# Altium integrated library Linear Technology Power Management LED Driver ICs.IntLib: 490 symbols (part 43 of 48)
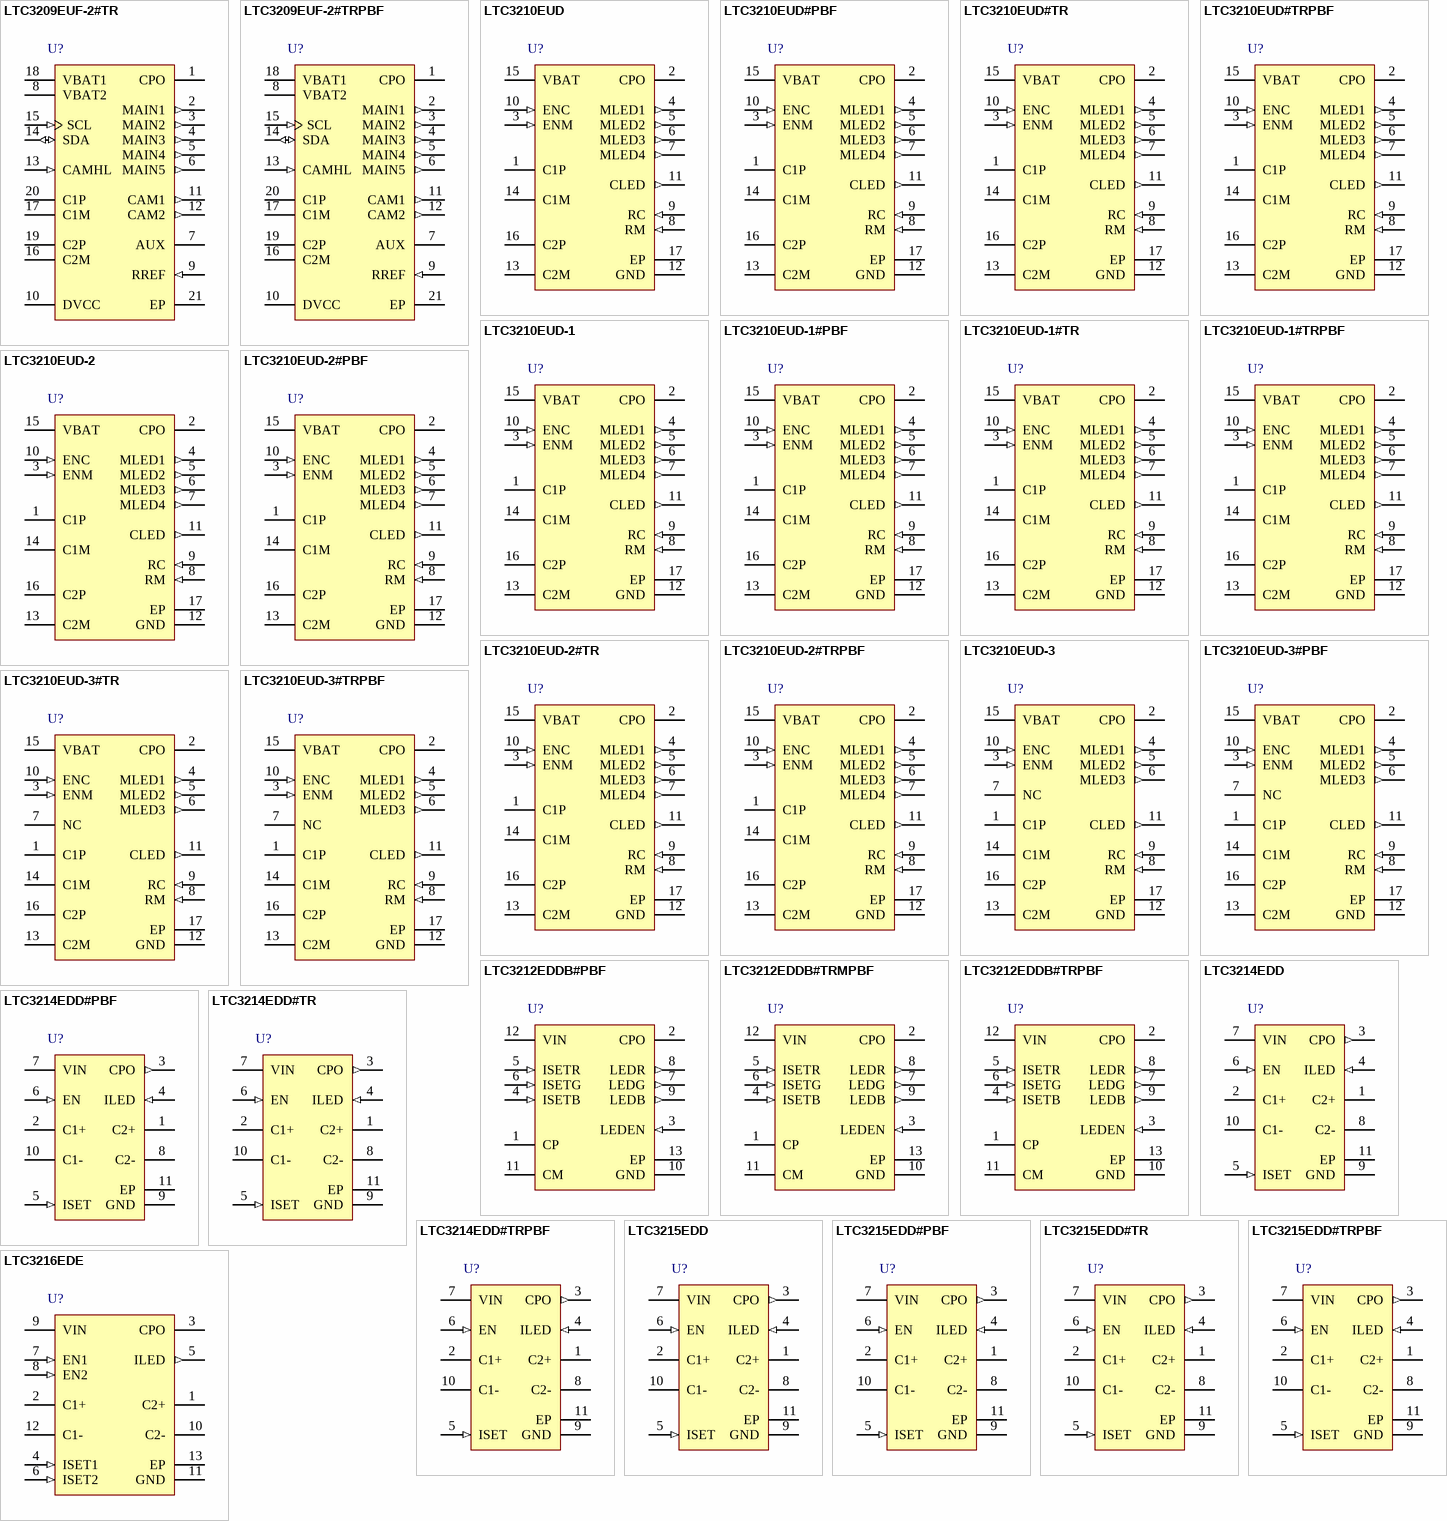
[diagram p62: symbols LTC3209EUF-2#TR to LTC3216EDE]

## LTC3214EDD
designator U?
500 mA Camera LED Charge Pump, 2.9 to 4.5 V Vin, 5 V Vout MAX, 10-pin SON (DD-10), -40 to 85 degC; Manufacturer: Linear Technology; PartNumber: LTC3214EDD; Topology: Charge Pump, LED Driver; Vin Min(V): 2.9; DatasheetVersion: Rev. B; PackageVersion: Rev. C, 06/2010; PackageReference: DD-10; PackageDescription: 10-Pin Plastic DFN, Body 3 x 3 mm, Pitch 0.5 mm; Supplier 1: Digi-Key; Supplier Part Number 1: LTC3214EDD-ND; RoHS: FALSE; Mounting Technology: Surface Mount; Code_JEDEC: MO-229; ComponentLink1Description: Manufacturer URL; ComponentLink1URL: http://www.linear.com/; ComponentLink2Description: Datasheet; ComponentLink2URL: http://cds.linear.com/docs/en/datasheet/3214fb.pdf; ComponentLink3Description: Package Specification; ComponentLink3URL: http://cds.linear.com/docs/en/packaging/DFN_10_05-08-1699.pdf
footprint LT-DD-10_V (SON, 10-Leads, Body 3x3mm, Pitch 0.5mm, Thermal Pad 2.38x1.65mm)
pins: 1 C2+ "Charge Pump Flying Capacitor Pins. A 2.2uF X5R or X7R ceramic capacitor should be connected from C1+ to C1- and from C2+ to C2-.", 2 C1+ "Charge Pump Flying Capacitor Pins. A 2.2uF X5R or X7R ceramic capacitor should be connected from C1+ to C1- and from C2+ to C2-.", 3 CPO (out) "Output. CPO is the output of the charge pump. This pin may be enabled or disabled using the EN input. A 4.7uF X5R or X7R ceramic capacitor is required from CPO to GND.", 4 ILED (in) "Input. ILED is the LED current sense pin. The LED is connected between CPO (anode) and ILED (cathode). The current into the ILED pin is set by a resistor connected to the ISET pin and regulated internally.", 5 ISET (in), 6 EN (in), 7 VIN (power), 8 C2- "Charge Pump Flying Capacitor Pins. A 2.2uF X5R or X7R ceramic capacitor should be connected from C1+ to C1- and from C2+ to C2-.", 9 GND (power) "Charge Pump Ground. This pin should be connected directly to a low impedance ground plane.", 10 C1- "Charge Pump Flying Capacitor Pins. A 2.2uF X5R or X7R ceramic capacitor should be connected from C1+ to C1- and from C2+ to C2-.", 11 EP (power) "Control Signal Ground. This pad must be soldered to a low impedance ground plane for optimum thermal and electrical performance."

## LTC3214EDD#PBF
designator U?
500 mA Camera LED Charge Pump, 2.9 to 4.5 V Vin, 5 V Vout MAX, 10-pin SON (DD-10), -40 to 85 degC, Pb-Free; Manufacturer: Linear Technology; PartNumber: LTC3214EDD#PBF; Topology: Charge Pump, LED Driver; Vin Min(V): 2.9; DatasheetVersion: Rev. B; PackageVersion: Rev. C, 06/2010; PackageReference: DD-10; PackageDescription: 10-Pin Plastic DFN, Body 3 x 3 mm, Pitch 0.5 mm; Supplier 1: Digi-Key; Supplier Part Number 1: LTC3214EDD#PBF-ND; Supplier 2: Newark; Supplier Part Number 2: 56M7417; RoHS: TRUE; Mounting Technology: Surface Mount; Code_JEDEC: MO-229; ComponentLink1Description: Manufacturer URL; ComponentLink1URL: http://www.linear.com/; ComponentLink2Description: Datasheet; ComponentLink2URL: http://cds.linear.com/docs/en/datasheet/3214fb.pdf; ComponentLink3Description: Package Specification; ComponentLink3URL: http://cds.linear.com/docs/en/packaging/DFN_10_05-08-1699.pdf
footprint LT-DD-10_V (SON, 10-Leads, Body 3x3mm, Pitch 0.5mm, Thermal Pad 2.38x1.65mm)
pins: 1 C2+ "Charge Pump Flying Capacitor Pins. A 2.2uF X5R or X7R ceramic capacitor should be connected from C1+ to C1- and from C2+ to C2-.", 2 C1+ "Charge Pump Flying Capacitor Pins. A 2.2uF X5R or X7R ceramic capacitor should be connected from C1+ to C1- and from C2+ to C2-.", 3 CPO (out) "Output. CPO is the output of the charge pump. This pin may be enabled or disabled using the EN input. A 4.7uF X5R or X7R ceramic capacitor is required from CPO to GND.", 4 ILED (in) "Input. ILED is the LED current sense pin. The LED is connected between CPO (anode) and ILED (cathode). The current into the ILED pin is set by a resistor connected to the ISET pin and regulated internally.", 5 ISET (in), 6 EN (in), 7 VIN (power), 8 C2- "Charge Pump Flying Capacitor Pins. A 2.2uF X5R or X7R ceramic capacitor should be connected from C1+ to C1- and from C2+ to C2-.", 9 GND (power) "Charge Pump Ground. This pin should be connected directly to a low impedance ground plane.", 10 C1- "Charge Pump Flying Capacitor Pins. A 2.2uF X5R or X7R ceramic capacitor should be connected from C1+ to C1- and from C2+ to C2-.", 11 EP (power) "Control Signal Ground. This pad must be soldered to a low impedance ground plane for optimum thermal and electrical performance."

## LTC3214EDD#TR
designator U?
500 mA Camera LED Charge Pump, 2.9 to 4.5 V Vin, 5 V Vout MAX, 10-pin SON (DD-10), -40 to 85 degC, Tape and Reel; Manufacturer: Linear Technology; PartNumber: LTC3214EDD#TR; Topology: Charge Pump, LED Driver; Vin Min(V): 2.9; DatasheetVersion: Rev. B; PackageVersion: Rev. C, 06/2010; PackageReference: DD-10; PackageDescription: 10-Pin Plastic DFN, Body 3 x 3 mm, Pitch 0.5 mm; Supplier 1: Digi-Key; Supplier Part Number 1: LTC3214EDD#TR-ND; Packing: Tape and Reel; RoHS: FALSE; Mounting Technology: Surface Mount; Code_JEDEC: MO-229; ComponentLink1Description: Manufacturer URL; ComponentLink1URL: http://www.linear.com/; ComponentLink2Description: Datasheet; ComponentLink2URL: http://cds.linear.com/docs/en/datasheet/3214fb.pdf; ComponentLink3Description: Package Specification; ComponentLink3URL: http://cds.linear.com/docs/en/packaging/DFN_10_05-08-1699.pdf
footprint LT-DD-10_V (SON, 10-Leads, Body 3x3mm, Pitch 0.5mm, Thermal Pad 2.38x1.65mm)
pins: 1 C2+ "Charge Pump Flying Capacitor Pins. A 2.2uF X5R or X7R ceramic capacitor should be connected from C1+ to C1- and from C2+ to C2-.", 2 C1+ "Charge Pump Flying Capacitor Pins. A 2.2uF X5R or X7R ceramic capacitor should be connected from C1+ to C1- and from C2+ to C2-.", 3 CPO (out) "Output. CPO is the output of the charge pump. This pin may be enabled or disabled using the EN input. A 4.7uF X5R or X7R ceramic capacitor is required from CPO to GND.", 4 ILED (in) "Input. ILED is the LED current sense pin. The LED is connected between CPO (anode) and ILED (cathode). The current into the ILED pin is set by a resistor connected to the ISET pin and regulated internally.", 5 ISET (in), 6 EN (in), 7 VIN (power), 8 C2- "Charge Pump Flying Capacitor Pins. A 2.2uF X5R or X7R ceramic capacitor should be connected from C1+ to C1- and from C2+ to C2-.", 9 GND (power) "Charge Pump Ground. This pin should be connected directly to a low impedance ground plane.", 10 C1- "Charge Pump Flying Capacitor Pins. A 2.2uF X5R or X7R ceramic capacitor should be connected from C1+ to C1- and from C2+ to C2-.", 11 EP (power) "Control Signal Ground. This pad must be soldered to a low impedance ground plane for optimum thermal and electrical performance."

## LTC3214EDD#TRPBF
designator U?
500 mA Camera LED Charge Pump, 2.9 to 4.5 V Vin, 5 V Vout MAX, 10-pin SON (DD-10), -40 to 85 degC, Pb-Free, Tape and Reel; Manufacturer: Linear Technology; PartNumber: LTC3214EDD#TRPBF; Topology: Charge Pump, LED Driver; Vin Min(V): 2.9; DatasheetVersion: Rev. B; PackageVersion: Rev. C, 06/2010; PackageReference: DD-10; PackageDescription: 10-Pin Plastic DFN, Body 3 x 3 mm, Pitch 0.5 mm; Supplier 1: Digi-Key; Supplier Part Number 1: LTC3214EDD#TRPBF-ND; Packing: Tape and Reel; RoHS: TRUE; Mounting Technology: Surface Mount; Code_JEDEC: MO-229; ComponentLink1Description: Manufacturer URL; ComponentLink1URL: http://www.linear.com/; ComponentLink2Description: Datasheet; ComponentLink2URL: http://cds.linear.com/docs/en/datasheet/3214fb.pdf; ComponentLink3Description: Package Specification; ComponentLink3URL: http://cds.linear.com/docs/en/packaging/DFN_10_05-08-1699.pdf
footprint LT-DD-10_V (SON, 10-Leads, Body 3x3mm, Pitch 0.5mm, Thermal Pad 2.38x1.65mm)
pins: 1 C2+ "Charge Pump Flying Capacitor Pins. A 2.2uF X5R or X7R ceramic capacitor should be connected from C1+ to C1- and from C2+ to C2-.", 2 C1+ "Charge Pump Flying Capacitor Pins. A 2.2uF X5R or X7R ceramic capacitor should be connected from C1+ to C1- and from C2+ to C2-.", 3 CPO (out) "Output. CPO is the output of the charge pump. This pin may be enabled or disabled using the EN input. A 4.7uF X5R or X7R ceramic capacitor is required from CPO to GND.", 4 ILED (in) "Input. ILED is the LED current sense pin. The LED is connected between CPO (anode) and ILED (cathode). The current into the ILED pin is set by a resistor connected to the ISET pin and regulated internally.", 5 ISET (in), 6 EN (in), 7 VIN (power), 8 C2- "Charge Pump Flying Capacitor Pins. A 2.2uF X5R or X7R ceramic capacitor should be connected from C1+ to C1- and from C2+ to C2-.", 9 GND (power) "Charge Pump Ground. This pin should be connected directly to a low impedance ground plane.", 10 C1- "Charge Pump Flying Capacitor Pins. A 2.2uF X5R or X7R ceramic capacitor should be connected from C1+ to C1- and from C2+ to C2-.", 11 EP (power) "Control Signal Ground. This pad must be soldered to a low impedance ground plane for optimum thermal and electrical performance."

## LTC3215EDD
designator U?
Constant Frequency Charge Pump with Independent Torch (350 mA) / Flash (700 mA) Current Control, 2.9 to 4.4 V Vin, 5.1 V Vout MAX, 10-pin SON (DD-10), -40 to 85 degC; Manufacturer: Linear Technology; PartNumber: LTC3215EDD; Topology: Charge Pump, LED Driver; Vin Min(V): 2.9; DatasheetVersion: Rev. C; PackageVersion: Rev. C, 06/2010; PackageReference: DD-10; PackageDescription: 10-Pin Plastic DFN, Body 3 x 3 mm, Pitch 0.5 mm; Supplier 1: Digi-Key; Supplier Part Number 1: LTC3215EDD-ND; RoHS: FALSE; Mounting Technology: Surface Mount; Code_JEDEC: MO-229; ComponentLink1Description: Manufacturer URL; ComponentLink1URL: http://www.linear.com/; ComponentLink2Description: Datasheet; ComponentLink2URL: http://cds.linear.com/docs/en/datasheet/3215fc.pdf; ComponentLink3Description: Package Specification; ComponentLink3URL: http://cds.linear.com/docs/en/packaging/DFN_10_05-08-1699.pdf
footprint LT-DD-10_V (SON, 10-Leads, Body 3x3mm, Pitch 0.5mm, Thermal Pad 2.38x1.65mm)
pins: 1 C2+ "Charge Pump Flying Capacitor Pins. A 2.2uF X5R or X7R ceramic capacitor should be connected from C1+ to C1- and from C2+ to C2-.", 2 C1+ "Charge Pump Flying Capacitor Pins. A 2.2uF X5R or X7R ceramic capacitor should be connected from C1+ to C1- and from C2+ to C2-.", 3 CPO (out) "Output. CPO is the output of the charge pump. This pin may be enabled or disabled using the EN input. A 4.7uF X5R or X7R ceramic capacitor is required from CPO to GND.", 4 ILED (in) "Input. ILED is the LED current sense pin. The LED is connected between CPO (anode) and ILED (cathode). The current into the ILED pin is set by a resistor connected to the ISET pin and regulated internally.", 5 ISET (in), 6 EN (in), 7 VIN (power), 8 C2- "Charge Pump Flying Capacitor Pins. A 2.2uF X5R or X7R ceramic capacitor should be connected from C1+ to C1- and from C2+ to C2-.", 9 GND (power) "Charge Pump Ground. This pin should be connected directly to a low impedance ground plane.", 10 C1- "Charge Pump Flying Capacitor Pins. A 2.2uF X5R or X7R ceramic capacitor should be connected from C1+ to C1- and from C2+ to C2-.", 11 EP (power) "Control Signal Ground. This pad must be soldered to a low impedance ground plane for optimum thermal and electrical performance."

## LTC3215EDD#PBF
designator U?
Constant Frequency Charge Pump with Independent Torch (350 mA) / Flash (700 mA) Current Control, 2.9 to 4.4 V Vin, 5.1 V Vout MAX, 10-pin SON (DD-10), -40 to 85 degC, Pb-Free; Manufacturer: Linear Technology; PartNumber: LTC3215EDD#PBF; Topology: Charge Pump, LED Driver; Vin Min(V): 2.9; DatasheetVersion: Rev. C; PackageVersion: Rev. C, 06/2010; PackageReference: DD-10; PackageDescription: 10-Pin Plastic DFN, Body 3 x 3 mm, Pitch 0.5 mm; Supplier 1: Digi-Key; Supplier Part Number 1: LTC3215EDD#PBF-ND; Supplier 2: Farnell; Supplier Part Number 2: 1226280; Supplier 3: Newark; Supplier Part Number 3: 56M7421; RoHS: TRUE; Mounting Technology: Surface Mount; Code_JEDEC: MO-229; ComponentLink1Description: Manufacturer URL; ComponentLink1URL: http://www.linear.com/; ComponentLink2Description: Datasheet; ComponentLink2URL: http://cds.linear.com/docs/en/datasheet/3215fc.pdf; ComponentLink3Description: Package Specification; ComponentLink3URL: http://cds.linear.com/docs/en/packaging/DFN_10_05-08-1699.pdf
footprint LT-DD-10_V (SON, 10-Leads, Body 3x3mm, Pitch 0.5mm, Thermal Pad 2.38x1.65mm)
pins: 1 C2+ "Charge Pump Flying Capacitor Pins. A 2.2uF X5R or X7R ceramic capacitor should be connected from C1+ to C1- and from C2+ to C2-.", 2 C1+ "Charge Pump Flying Capacitor Pins. A 2.2uF X5R or X7R ceramic capacitor should be connected from C1+ to C1- and from C2+ to C2-.", 3 CPO (out) "Output. CPO is the output of the charge pump. This pin may be enabled or disabled using the EN input. A 4.7uF X5R or X7R ceramic capacitor is required from CPO to GND.", 4 ILED (in) "Input. ILED is the LED current sense pin. The LED is connected between CPO (anode) and ILED (cathode). The current into the ILED pin is set by a resistor connected to the ISET pin and regulated internally.", 5 ISET (in), 6 EN (in), 7 VIN (power), 8 C2- "Charge Pump Flying Capacitor Pins. A 2.2uF X5R or X7R ceramic capacitor should be connected from C1+ to C1- and from C2+ to C2-.", 9 GND (power) "Charge Pump Ground. This pin should be connected directly to a low impedance ground plane.", 10 C1- "Charge Pump Flying Capacitor Pins. A 2.2uF X5R or X7R ceramic capacitor should be connected from C1+ to C1- and from C2+ to C2-.", 11 EP (power) "Control Signal Ground. This pad must be soldered to a low impedance ground plane for optimum thermal and electrical performance."

## LTC3215EDD#TR
designator U?
Constant Frequency Charge Pump with Independent Torch (350 mA) / Flash (700 mA) Current Control, 2.9 to 4.4 V Vin, 5.1 V Vout MAX, 10-pin SON (DD-10), -40 to 85 degC, Tape and Reel; Manufacturer: Linear Technology; PartNumber: LTC3215EDD#TR; Topology: Charge Pump, LED Driver; Vin Min(V): 2.9; DatasheetVersion: Rev. C; PackageVersion: Rev. C, 06/2010; PackageReference: DD-10; PackageDescription: 10-Pin Plastic DFN, Body 3 x 3 mm, Pitch 0.5 mm; Supplier 1: Digi-Key; Supplier Part Number 1: LTC3215EDD#TR-ND; Packing: Tape and Reel; RoHS: FALSE; Mounting Technology: Surface Mount; Code_JEDEC: MO-229; ComponentLink1Description: Manufacturer URL; ComponentLink1URL: http://www.linear.com/; ComponentLink2Description: Datasheet; ComponentLink2URL: http://cds.linear.com/docs/en/datasheet/3215fc.pdf; ComponentLink3Description: Package Specification; ComponentLink3URL: http://cds.linear.com/docs/en/packaging/DFN_10_05-08-1699.pdf
footprint LT-DD-10_V (SON, 10-Leads, Body 3x3mm, Pitch 0.5mm, Thermal Pad 2.38x1.65mm)
pins: 1 C2+ "Charge Pump Flying Capacitor Pins. A 2.2uF X5R or X7R ceramic capacitor should be connected from C1+ to C1- and from C2+ to C2-.", 2 C1+ "Charge Pump Flying Capacitor Pins. A 2.2uF X5R or X7R ceramic capacitor should be connected from C1+ to C1- and from C2+ to C2-.", 3 CPO (out) "Output. CPO is the output of the charge pump. This pin may be enabled or disabled using the EN input. A 4.7uF X5R or X7R ceramic capacitor is required from CPO to GND.", 4 ILED (in) "Input. ILED is the LED current sense pin. The LED is connected between CPO (anode) and ILED (cathode). The current into the ILED pin is set by a resistor connected to the ISET pin and regulated internally.", 5 ISET (in), 6 EN (in), 7 VIN (power), 8 C2- "Charge Pump Flying Capacitor Pins. A 2.2uF X5R or X7R ceramic capacitor should be connected from C1+ to C1- and from C2+ to C2-.", 9 GND (power) "Charge Pump Ground. This pin should be connected directly to a low impedance ground plane.", 10 C1- "Charge Pump Flying Capacitor Pins. A 2.2uF X5R or X7R ceramic capacitor should be connected from C1+ to C1- and from C2+ to C2-.", 11 EP (power) "Control Signal Ground. This pad must be soldered to a low impedance ground plane for optimum thermal and electrical performance."

## LTC3215EDD#TRPBF
designator U?
Constant Frequency Charge Pump with Independent Torch (350 mA) / Flash (700 mA) Current Control, 2.9 to 4.4 V Vin, 5.1 V Vout MAX, 10-pin SON (DD-10), -40 to 85 degC, Pb-Free, Tape and Reel; Manufacturer: Linear Technology; PartNumber: LTC3215EDD#TRPBF; Topology: Charge Pump, LED Driver; Vin Min(V): 2.9; DatasheetVersion: Rev. C; PackageVersion: Rev. C, 06/2010; PackageReference: DD-10; PackageDescription: 10-Pin Plastic DFN, Body 3 x 3 mm, Pitch 0.5 mm; Supplier 1: Digi-Key; Supplier Part Number 1: LTC3215EDD#TRPBF-ND; Supplier 2: Newark; Supplier Part Number 2: 56M7423; Packing: Tape and Reel; RoHS: TRUE; Mounting Technology: Surface Mount; Code_JEDEC: MO-229; ComponentLink1Description: Manufacturer URL; ComponentLink1URL: http://www.linear.com/; ComponentLink2Description: Datasheet; ComponentLink2URL: http://cds.linear.com/docs/en/datasheet/3215fc.pdf; ComponentLink3Description: Package Specification; ComponentLink3URL: http://cds.linear.com/docs/en/packaging/DFN_10_05-08-1699.pdf
footprint LT-DD-10_V (SON, 10-Leads, Body 3x3mm, Pitch 0.5mm, Thermal Pad 2.38x1.65mm)
pins: 1 C2+ "Charge Pump Flying Capacitor Pins. A 2.2uF X5R or X7R ceramic capacitor should be connected from C1+ to C1- and from C2+ to C2-.", 2 C1+ "Charge Pump Flying Capacitor Pins. A 2.2uF X5R or X7R ceramic capacitor should be connected from C1+ to C1- and from C2+ to C2-.", 3 CPO (out) "Output. CPO is the output of the charge pump. This pin may be enabled or disabled using the EN input. A 4.7uF X5R or X7R ceramic capacitor is required from CPO to GND.", 4 ILED (in) "Input. ILED is the LED current sense pin. The LED is connected between CPO (anode) and ILED (cathode). The current into the ILED pin is set by a resistor connected to the ISET pin and regulated internally.", 5 ISET (in), 6 EN (in), 7 VIN (power), 8 C2- "Charge Pump Flying Capacitor Pins. A 2.2uF X5R or X7R ceramic capacitor should be connected from C1+ to C1- and from C2+ to C2-.", 9 GND (power) "Charge Pump Ground. This pin should be connected directly to a low impedance ground plane.", 10 C1- "Charge Pump Flying Capacitor Pins. A 2.2uF X5R or X7R ceramic capacitor should be connected from C1+ to C1- and from C2+ to C2-.", 11 EP (power) "Control Signal Ground. This pad must be soldered to a low impedance ground plane for optimum thermal and electrical performance."

## LTC3216EDE
designator U?
Constant Frequency Charge Pump with Independent Torch (500 mA) / Flash (1 A) Current Control, 2.9 to 4.4 V Vin, 5.1 V Vout MAX, 12-pin SON (DE-12), -40 to 85 degC; Manufacturer: Linear Technology; PartNumber: LTC3216EDE; Topology: Charge Pump, LED Driver; Vin Min(V): 2.9; DatasheetVersion: Rev. C; PackageVersion: Rev. D, 06/2010; PackageReference: DE-12; PackageDescription: 12-Pin Plastic DFN, Body 4 x 3 mm, Pitch 0.5 mm; RoHS: FALSE; Mounting Technology: Surface Mount; Code_JEDEC: MO-229; ComponentLink1Description: Manufacturer URL; ComponentLink1URL: http://www.linear.com/; ComponentLink2Description: Datasheet; ComponentLink2URL: http://cds.linear.com/docs/en/datasheet/3216fc.pdf; ComponentLink3Description: Package Specification; ComponentLink3URL: http://cds.linear.com/docs/en/packaging/DFN_12_05-08-1695.pdf
footprint LT-DE-12-05-08-1695_V (SON, 12-Leads, Body 4x3mm, Pitch 0.5mm, Thermal Pad 3.3x1.7mm)
pins: 1 C2+ "Charge Pump Flying Capacitor Pins. A 2.2uF X5R or X7R ceramic capacitor should be connected from C1+ to C1- and from C2+ to C2-.", 2 C1+ "Charge Pump Flying Capacitor Pins. A 2.2uF X5R or X7R ceramic capacitor should be connected from C1+ to C1- and from C2+ to C2-.", 3 CPO (power) "Output. CPO is the output of the charge pump. This pin may be enabled or disabled using the EN1 and EN2 inputs. A 4.7uF X5R or X7R ceramic capacitor is required from CPO to GND", 4 ISET1 (in) "LED Current Programming Resistor Pins. The ISET1 and ISET2 pins will servo to 1.22V. Resistors connected between each of these pins and GND are used to set the high and low LED current levels. Connecting a resistor of 2k or (See Datasheet)", 5 ILED (out) "Output. ILED is the LED current source output. The LED is connected between CPO (anode) and ILED (cathode). The current into the ILED pin is set via the EN1 and EN2 inputs, and the programming resistors connected from ISET2 (See Datasheet)", 6 ISET2 (in) "LED Current Programming Resistor Pins. The ISET1 and ISET2 pins will servo to 1.22V. Resistors connected between each of these pins and GND are used to set the high and low LED current levels. Connecting a resistor of 2k or (See Datasheet)", 7 EN1 (in) "Inputs. The EN1 and EN2 pins are used to select which current level is being supplied to the LED, as well as to put the part into shutdown mode.", 8 EN2 (in) "Inputs. The EN1 and EN2 pins are used to select which current level is being supplied to the LED, as well as to put the part into shutdown mode.", 9 VIN (power) "Power. Supply voltage for the LTC3216. VIN should be bypassed with a 2.2uF or greater low impedance ceramic capacitor to GND.", 10 C2- "Charge Pump Flying Capacitor Pins. A 2.2uF X5R or X7R ceramic capacitor should be connected from C1+ to C1- and from C2+ to C2-.", 11 GND (power) "Charge Pump Ground. This pin should be connected directly to a low impedance ground plane.", 12 C1- "Charge Pump Flying Capacitor Pins. A 2.2uF X5R or X7R ceramic capacitor should be connected from C1+ to C1- and from C2+ to C2-.", 13 EP (power) "Control Signal Ground. This pad must be soldered to a low impedance ground plane for optimum thermal and electrical performance."

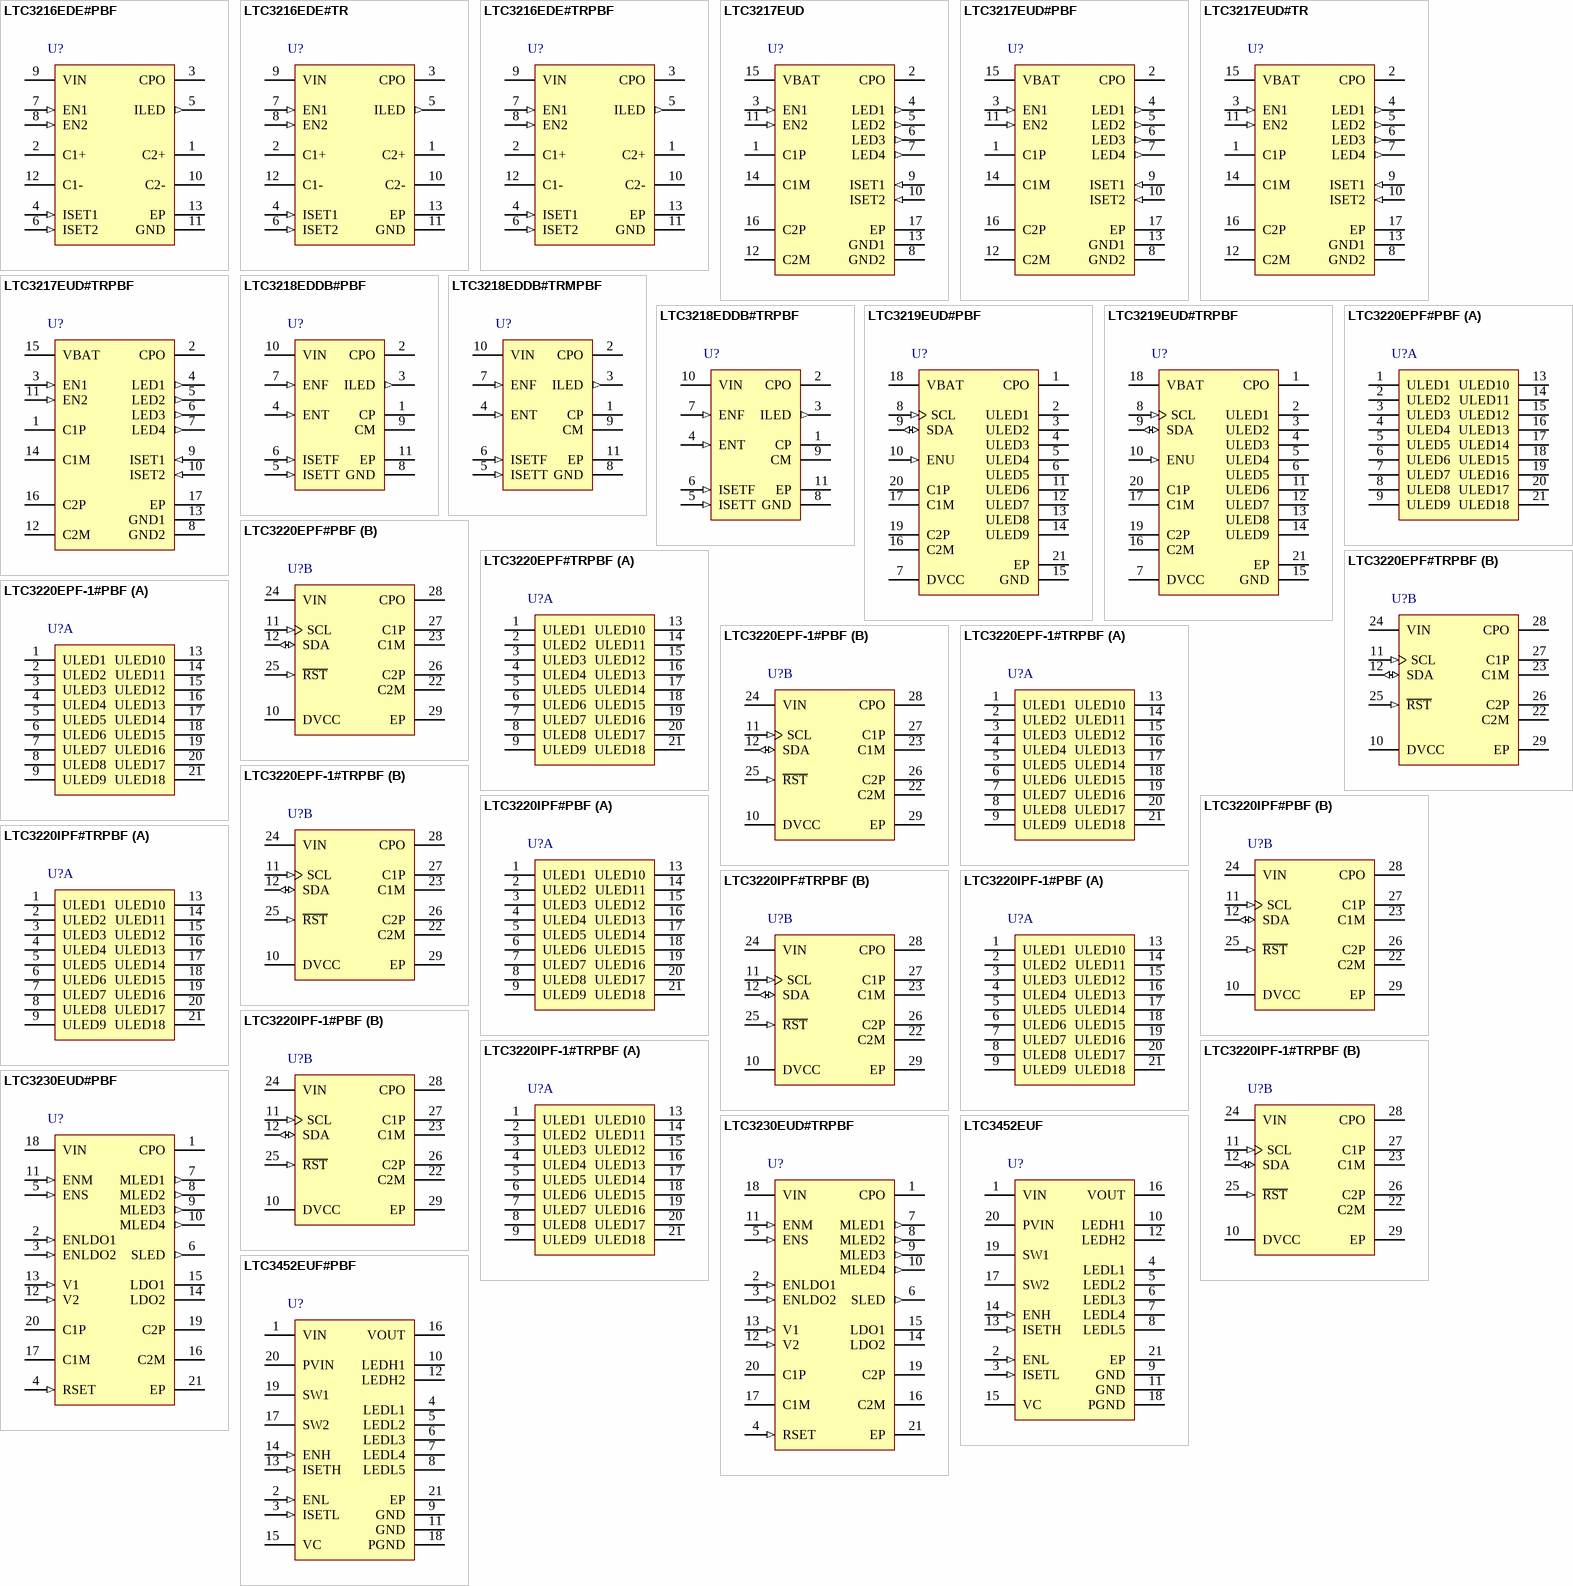
[diagram p18: symbols LTC3216EDE#PBF to LTC3452EUF#PBF]

## LTC3216EDE#PBF
designator U?
Constant Frequency Charge Pump with Independent Torch (500 mA) / Flash (1 A) Current Control, 2.9 to 4.4 V Vin, 5.1 V Vout MAX, 12-pin SON (DE-12), -40 to 85 degC, Pb-Free; Manufacturer: Linear Technology; PartNumber: LTC3216EDE#PBF; Topology: Charge Pump, LED Driver; Vin Min(V): 2.9; DatasheetVersion: Rev. C; PackageVersion: Rev. D, 06/2010; PackageReference: DE-12; PackageDescription: 12-Pin Plastic DFN, Body 4 x 3 mm, Pitch 0.5 mm; Supplier 1: Digi-Key; Supplier Part Number 1: LTC3216EDE#PBF-ND; Supplier 2: Newark; Supplier Part Number 2: 56M7425; RoHS: TRUE; Mounting Technology: Surface Mount; Code_JEDEC: MO-229; ComponentLink1Description: Manufacturer URL; ComponentLink1URL: http://www.linear.com/; ComponentLink2Description: Datasheet; ComponentLink2URL: http://cds.linear.com/docs/en/datasheet/3216fc.pdf; ComponentLink3Description: Package Specification; ComponentLink3URL: http://cds.linear.com/docs/en/packaging/DFN_12_05-08-1695.pdf
footprint LT-DE-12-05-08-1695_V (SON, 12-Leads, Body 4x3mm, Pitch 0.5mm, Thermal Pad 3.3x1.7mm)
pins: 1 C2+ "Charge Pump Flying Capacitor Pins. A 2.2uF X5R or X7R ceramic capacitor should be connected from C1+ to C1- and from C2+ to C2-.", 2 C1+ "Charge Pump Flying Capacitor Pins. A 2.2uF X5R or X7R ceramic capacitor should be connected from C1+ to C1- and from C2+ to C2-.", 3 CPO (power) "Output. CPO is the output of the charge pump. This pin may be enabled or disabled using the EN1 and EN2 inputs. A 4.7uF X5R or X7R ceramic capacitor is required from CPO to GND", 4 ISET1 (in) "LED Current Programming Resistor Pins. The ISET1 and ISET2 pins will servo to 1.22V. Resistors connected between each of these pins and GND are used to set the high and low LED current levels. Connecting a resistor of 2k or (See Datasheet)", 5 ILED (out) "Output. ILED is the LED current source output. The LED is connected between CPO (anode) and ILED (cathode). The current into the ILED pin is set via the EN1 and EN2 inputs, and the programming resistors connected from ISET2 (See Datasheet)", 6 ISET2 (in) "LED Current Programming Resistor Pins. The ISET1 and ISET2 pins will servo to 1.22V. Resistors connected between each of these pins and GND are used to set the high and low LED current levels. Connecting a resistor of 2k or (See Datasheet)", 7 EN1 (in) "Inputs. The EN1 and EN2 pins are used to select which current level is being supplied to the LED, as well as to put the part into shutdown mode.", 8 EN2 (in) "Inputs. The EN1 and EN2 pins are used to select which current level is being supplied to the LED, as well as to put the part into shutdown mode.", 9 VIN (power) "Power. Supply voltage for the LTC3216. VIN should be bypassed with a 2.2uF or greater low impedance ceramic capacitor to GND.", 10 C2- "Charge Pump Flying Capacitor Pins. A 2.2uF X5R or X7R ceramic capacitor should be connected from C1+ to C1- and from C2+ to C2-.", 11 GND (power) "Charge Pump Ground. This pin should be connected directly to a low impedance ground plane.", 12 C1- "Charge Pump Flying Capacitor Pins. A 2.2uF X5R or X7R ceramic capacitor should be connected from C1+ to C1- and from C2+ to C2-.", 13 EP (power) "Control Signal Ground. This pad must be soldered to a low impedance ground plane for optimum thermal and electrical performance."

## LTC3216EDE#TR
designator U?
Constant Frequency Charge Pump with Independent Torch (500 mA) / Flash (1 A) Current Control, 2.9 to 4.4 V Vin, 5.1 V Vout MAX, 12-pin SON (DE-12), -40 to 85 degC, Tape and Reel; Manufacturer: Linear Technology; PartNumber: LTC3216EDE#TR; Topology: Charge Pump, LED Driver; Vin Min(V): 2.9; DatasheetVersion: Rev. C; PackageVersion: Rev. D, 06/2010; PackageReference: DE-12; PackageDescription: 12-Pin Plastic DFN, Body 4 x 3 mm, Pitch 0.5 mm; Packing: Tape and Reel; RoHS: FALSE; Mounting Technology: Surface Mount; Code_JEDEC: MO-229; ComponentLink1Description: Manufacturer URL; ComponentLink1URL: http://www.linear.com/; ComponentLink2Description: Datasheet; ComponentLink2URL: http://cds.linear.com/docs/en/datasheet/3216fc.pdf; ComponentLink3Description: Package Specification; ComponentLink3URL: http://cds.linear.com/docs/en/packaging/DFN_12_05-08-1695.pdf
footprint LT-DE-12-05-08-1695_V (SON, 12-Leads, Body 4x3mm, Pitch 0.5mm, Thermal Pad 3.3x1.7mm)
pins: 1 C2+ "Charge Pump Flying Capacitor Pins. A 2.2uF X5R or X7R ceramic capacitor should be connected from C1+ to C1- and from C2+ to C2-.", 2 C1+ "Charge Pump Flying Capacitor Pins. A 2.2uF X5R or X7R ceramic capacitor should be connected from C1+ to C1- and from C2+ to C2-.", 3 CPO (power) "Output. CPO is the output of the charge pump. This pin may be enabled or disabled using the EN1 and EN2 inputs. A 4.7uF X5R or X7R ceramic capacitor is required from CPO to GND", 4 ISET1 (in) "LED Current Programming Resistor Pins. The ISET1 and ISET2 pins will servo to 1.22V. Resistors connected between each of these pins and GND are used to set the high and low LED current levels. Connecting a resistor of 2k or (See Datasheet)", 5 ILED (out) "Output. ILED is the LED current source output. The LED is connected between CPO (anode) and ILED (cathode). The current into the ILED pin is set via the EN1 and EN2 inputs, and the programming resistors connected from ISET2 (See Datasheet)", 6 ISET2 (in) "LED Current Programming Resistor Pins. The ISET1 and ISET2 pins will servo to 1.22V. Resistors connected between each of these pins and GND are used to set the high and low LED current levels. Connecting a resistor of 2k or (See Datasheet)", 7 EN1 (in) "Inputs. The EN1 and EN2 pins are used to select which current level is being supplied to the LED, as well as to put the part into shutdown mode.", 8 EN2 (in) "Inputs. The EN1 and EN2 pins are used to select which current level is being supplied to the LED, as well as to put the part into shutdown mode.", 9 VIN (power) "Power. Supply voltage for the LTC3216. VIN should be bypassed with a 2.2uF or greater low impedance ceramic capacitor to GND.", 10 C2- "Charge Pump Flying Capacitor Pins. A 2.2uF X5R or X7R ceramic capacitor should be connected from C1+ to C1- and from C2+ to C2-.", 11 GND (power) "Charge Pump Ground. This pin should be connected directly to a low impedance ground plane.", 12 C1- "Charge Pump Flying Capacitor Pins. A 2.2uF X5R or X7R ceramic capacitor should be connected from C1+ to C1- and from C2+ to C2-.", 13 EP (power) "Control Signal Ground. This pad must be soldered to a low impedance ground plane for optimum thermal and electrical performance."

## LTC3216EDE#TRPBF
designator U?
Constant Frequency Charge Pump with Independent Torch (500 mA) / Flash (1 A) Current Control, 2.9 to 4.4 V Vin, 5.1 V Vout MAX, 12-pin SON (DE-12), -40 to 85 degC, Pb-Free, Tape and Reel; Manufacturer: Linear Technology; PartNumber: LTC3216EDE#TRPBF; Topology: Charge Pump, LED Driver; Vin Min(V): 2.9; DatasheetVersion: Rev. C; PackageVersion: Rev. D, 06/2010; PackageReference: DE-12; PackageDescription: 12-Pin Plastic DFN, Body 4 x 3 mm, Pitch 0.5 mm; Supplier 1: Digi-Key; Supplier Part Number 1: LTC3216EDE#TRPBF-ND; Packing: Tape and Reel; RoHS: TRUE; Mounting Technology: Surface Mount; Code_JEDEC: MO-229; ComponentLink1Description: Manufacturer URL; ComponentLink1URL: http://www.linear.com/; ComponentLink2Description: Datasheet; ComponentLink2URL: http://cds.linear.com/docs/en/datasheet/3216fc.pdf; ComponentLink3Description: Package Specification; ComponentLink3URL: http://cds.linear.com/docs/en/packaging/DFN_12_05-08-1695.pdf
footprint LT-DE-12-05-08-1695_V (SON, 12-Leads, Body 4x3mm, Pitch 0.5mm, Thermal Pad 3.3x1.7mm)
pins: 1 C2+ "Charge Pump Flying Capacitor Pins. A 2.2uF X5R or X7R ceramic capacitor should be connected from C1+ to C1- and from C2+ to C2-.", 2 C1+ "Charge Pump Flying Capacitor Pins. A 2.2uF X5R or X7R ceramic capacitor should be connected from C1+ to C1- and from C2+ to C2-.", 3 CPO (power) "Output. CPO is the output of the charge pump. This pin may be enabled or disabled using the EN1 and EN2 inputs. A 4.7uF X5R or X7R ceramic capacitor is required from CPO to GND", 4 ISET1 (in) "LED Current Programming Resistor Pins. The ISET1 and ISET2 pins will servo to 1.22V. Resistors connected between each of these pins and GND are used to set the high and low LED current levels. Connecting a resistor of 2k or (See Datasheet)", 5 ILED (out) "Output. ILED is the LED current source output. The LED is connected between CPO (anode) and ILED (cathode). The current into the ILED pin is set via the EN1 and EN2 inputs, and the programming resistors connected from ISET2 (See Datasheet)", 6 ISET2 (in) "LED Current Programming Resistor Pins. The ISET1 and ISET2 pins will servo to 1.22V. Resistors connected between each of these pins and GND are used to set the high and low LED current levels. Connecting a resistor of 2k or (See Datasheet)", 7 EN1 (in) "Inputs. The EN1 and EN2 pins are used to select which current level is being supplied to the LED, as well as to put the part into shutdown mode.", 8 EN2 (in) "Inputs. The EN1 and EN2 pins are used to select which current level is being supplied to the LED, as well as to put the part into shutdown mode.", 9 VIN (power) "Power. Supply voltage for the LTC3216. VIN should be bypassed with a 2.2uF or greater low impedance ceramic capacitor to GND.", 10 C2- "Charge Pump Flying Capacitor Pins. A 2.2uF X5R or X7R ceramic capacitor should be connected from C1+ to C1- and from C2+ to C2-.", 11 GND (power) "Charge Pump Ground. This pin should be connected directly to a low impedance ground plane.", 12 C1- "Charge Pump Flying Capacitor Pins. A 2.2uF X5R or X7R ceramic capacitor should be connected from C1+ to C1- and from C2+ to C2-.", 13 EP (power) "Control Signal Ground. This pad must be soldered to a low impedance ground plane for optimum thermal and electrical performance."

## LTC3217EUD
designator U?
600 mA Low Noise Multi-LED Camera Light Charge Pump, 2.9 to 4.5 V Vin, 16-pin QFN (UD-16), -40 to 85 degC; Manufacturer: Linear Technology; PartNumber: LTC3217EUD; Topology: Charge Pump, LED Driver; Vin Min(V): 2.9; DatasheetVersion: Rev. A; PackageVersion: Jun-10; PackageReference: UD-16; PackageDescription: 16-Pin Plastic QFN, Body 3 x 3 mm, Pitch 0.5 mm; RoHS: FALSE; Mounting Technology: Surface Mount; Code_JEDEC: MO-220; ComponentLink1Description: Manufacturer URL; ComponentLink1URL: http://www.linear.com/; ComponentLink2Description: Datasheet; ComponentLink2URL: http://cds.linear.com/docs/en/datasheet/3217fa.pdf; ComponentLink3Description: Package Specification; ComponentLink3URL: http://cds.linear.com/docs/en/packaging/QFN_16_05-08-1691.pdf
footprint LT-UD-16_N (QFN, 16-Leads, Body 3x3mm, Pitch 0.5mm, Thermal Pad 1.45x1.45mm, IPC Medium Density)
footprint LT-UD-16_L (QFN, 16-Leads, Body 3x3mm, Pitch 0.5mm, Thermal Pad 1.45x1.45mm, IPC High Density)
footprint LT-UD-16_M (QFN, 16-Leads, Body 3x3mm, Pitch 0.5mm, Thermal Pad 1.45x1.45mm, IPC Low Density)
pins: 1 C1P "Charge Pump Flying Capacitor Pins. A 2.2 uF X7R or X5R ceramic capacitor should be connected from C1P to C1M and C2P to C2M.", 2 CPO (power) "Output of the charge pump used to power all LEDs. This pin is enabled or disabled using the EN1 and EN2 inputs. A 2.2 uF X5R or X7R ceramic capacitor should be connected to ground.", 3 EN1 (in) "Inputs. The EN1 and EN2 pins are used to select which current level is being supplied to the LEDs, as well as to put the part into shutdown mode.", 4 LED1 (out) "LED1 to LED4 are the current source outputs. Each LED is connected in between CPO (anodes) and LED1-4 (cathodes). The current to each LED output is set via the EN1 and EN2 inputs, and the programming resistors connected from (See Datasheet)", 5 LED2 (out) "LED1 to LED4 are the current source outputs. Each LED is connected in between CPO (anodes) and LED1-4 (cathodes). The current to each LED output is set via the EN1 and EN2 inputs, and the programming resistors connected from (See Datasheet)", 6 LED3 (out) "LED1 to LED4 are the current source outputs. Each LED is connected in between CPO (anodes) and LED1-4 (cathodes). The current to each LED output is set via the EN1 and EN2 inputs, and the programming resistors connected from (See Datasheet)", 7 LED4 (out) "LED1 to LED4 are the current source outputs. Each LED is connected in between CPO (anodes) and LED1-4 (cathodes). The current to each LED output is set via the EN1 and EN2 inputs, and the programming resistors connected from (See Datasheet)", 8 GND2 (power) "Analog Ground. This pin should be connected directly to a low impedance ground plane.", 9 ISET1 (in) "LED Current Programming Resistor Pins. The ISET1 and ISET2 pins will servo to 1.22 V. Resistors connected between each of these pins and GND are used to set the high and low LED current levels. Connecting a resistor 2 k or (See Datasheet)", 10 ISET2 (in) "LED Current Programming Resistor Pins. The ISET1 and ISET2 pins will servo to 1.22 V. Resistors connected between each of these pins and GND are used to set the high and low LED current levels. Connecting a resistor 2 k or (See Datasheet)", 11 EN2 (in) "Inputs. The EN1 and EN2 pins are used to select which current level is being supplied to the LEDs, as well as to put the part into shutdown mode.", 12 C2M "Charge Pump Flying Capacitor Pins. A 2.2 uF X7R or X5R ceramic capacitor should be connected from C1P to C1M and C2P to C2M.", 13 GND1 (power) "Charge Pump Ground. This pin should be connected directly to a low impedance ground plane", 14 C1M "Charge Pump Flying Capacitor Pins. A 2.2 uF X7R or X5R ceramic capacitor should be connected from C1P to C1M and C2P to C2M.", 15 VBAT (power) "Supply Voltage. This pin should be bypassed with a 2.2 uF, or greater low ESR ceramic capacitor.", 16 C2P "Charge Pump Flying Capacitor Pins. A 2.2 uF X7R or X5R ceramic capacitor should be connected from C1P to C1M and C2P to C2M.", 17 EP (power) "This pad should be connected directly to a low impedance ground plane for optimal thermal and electrical performance."

## LTC3217EUD#PBF
designator U?
600 mA Low Noise Multi-LED Camera Light Charge Pump, 2.9 to 4.5 V Vin, 16-pin QFN (UD-16), -40 to 85 degC, Pb-Free; Manufacturer: Linear Technology; PartNumber: LTC3217EUD#PBF; Topology: Charge Pump, LED Driver; Vin Min(V): 2.9; DatasheetVersion: Rev. A; PackageVersion: Jun-10; PackageReference: UD-16; PackageDescription: 16-Pin Plastic QFN, Body 3 x 3 mm, Pitch 0.5 mm; Supplier 1: Digi-Key; Supplier Part Number 1: LTC3217EUD#PBF-ND; Supplier 2: Newark; Supplier Part Number 2: 56M7429; RoHS: TRUE; Mounting Technology: Surface Mount; Code_JEDEC: MO-220; ComponentLink1Description: Manufacturer URL; ComponentLink1URL: http://www.linear.com/; ComponentLink2Description: Datasheet; ComponentLink2URL: http://cds.linear.com/docs/en/datasheet/3217fa.pdf; ComponentLink3Description: Package Specification; ComponentLink3URL: http://cds.linear.com/docs/en/packaging/QFN_16_05-08-1691.pdf
footprint LT-UD-16_N (QFN, 16-Leads, Body 3x3mm, Pitch 0.5mm, Thermal Pad 1.45x1.45mm, IPC Medium Density)
footprint LT-UD-16_L (QFN, 16-Leads, Body 3x3mm, Pitch 0.5mm, Thermal Pad 1.45x1.45mm, IPC High Density)
footprint LT-UD-16_M (QFN, 16-Leads, Body 3x3mm, Pitch 0.5mm, Thermal Pad 1.45x1.45mm, IPC Low Density)
pins: 1 C1P "Charge Pump Flying Capacitor Pins. A 2.2 uF X7R or X5R ceramic capacitor should be connected from C1P to C1M and C2P to C2M.", 2 CPO (power) "Output of the charge pump used to power all LEDs. This pin is enabled or disabled using the EN1 and EN2 inputs. A 2.2 uF X5R or X7R ceramic capacitor should be connected to ground.", 3 EN1 (in) "Inputs. The EN1 and EN2 pins are used to select which current level is being supplied to the LEDs, as well as to put the part into shutdown mode.", 4 LED1 (out) "LED1 to LED4 are the current source outputs. Each LED is connected in between CPO (anodes) and LED1-4 (cathodes). The current to each LED output is set via the EN1 and EN2 inputs, and the programming resistors connected from (See Datasheet)", 5 LED2 (out) "LED1 to LED4 are the current source outputs. Each LED is connected in between CPO (anodes) and LED1-4 (cathodes). The current to each LED output is set via the EN1 and EN2 inputs, and the programming resistors connected from (See Datasheet)", 6 LED3 (out) "LED1 to LED4 are the current source outputs. Each LED is connected in between CPO (anodes) and LED1-4 (cathodes). The current to each LED output is set via the EN1 and EN2 inputs, and the programming resistors connected from (See Datasheet)", 7 LED4 (out) "LED1 to LED4 are the current source outputs. Each LED is connected in between CPO (anodes) and LED1-4 (cathodes). The current to each LED output is set via the EN1 and EN2 inputs, and the programming resistors connected from (See Datasheet)", 8 GND2 (power) "Analog Ground. This pin should be connected directly to a low impedance ground plane.", 9 ISET1 (in) "LED Current Programming Resistor Pins. The ISET1 and ISET2 pins will servo to 1.22 V. Resistors connected between each of these pins and GND are used to set the high and low LED current levels. Connecting a resistor 2 k or (See Datasheet)", 10 ISET2 (in) "LED Current Programming Resistor Pins. The ISET1 and ISET2 pins will servo to 1.22 V. Resistors connected between each of these pins and GND are used to set the high and low LED current levels. Connecting a resistor 2 k or (See Datasheet)", 11 EN2 (in) "Inputs. The EN1 and EN2 pins are used to select which current level is being supplied to the LEDs, as well as to put the part into shutdown mode.", 12 C2M "Charge Pump Flying Capacitor Pins. A 2.2 uF X7R or X5R ceramic capacitor should be connected from C1P to C1M and C2P to C2M.", 13 GND1 (power) "Charge Pump Ground. This pin should be connected directly to a low impedance ground plane", 14 C1M "Charge Pump Flying Capacitor Pins. A 2.2 uF X7R or X5R ceramic capacitor should be connected from C1P to C1M and C2P to C2M.", 15 VBAT (power) "Supply Voltage. This pin should be bypassed with a 2.2 uF, or greater low ESR ceramic capacitor.", 16 C2P "Charge Pump Flying Capacitor Pins. A 2.2 uF X7R or X5R ceramic capacitor should be connected from C1P to C1M and C2P to C2M.", 17 EP (power) "This pad should be connected directly to a low impedance ground plane for optimal thermal and electrical performance."

## LTC3217EUD#TR
designator U?
600 mA Low Noise Multi-LED Camera Light Charge Pump, 2.9 to 4.5 V Vin, 16-pin QFN (UD-16), -40 to 85 degC, Tape and Reel; Manufacturer: Linear Technology; PartNumber: LTC3217EUD#TR; Topology: Charge Pump, LED Driver; Vin Min(V): 2.9; DatasheetVersion: Rev. A; PackageVersion: Jun-10; PackageReference: UD-16; PackageDescription: 16-Pin Plastic QFN, Body 3 x 3 mm, Pitch 0.5 mm; Packing: Tape and Reel; RoHS: FALSE; Mounting Technology: Surface Mount; Code_JEDEC: MO-220; ComponentLink1Description: Manufacturer URL; ComponentLink1URL: http://www.linear.com/; ComponentLink2Description: Datasheet; ComponentLink2URL: http://cds.linear.com/docs/en/datasheet/3217fa.pdf; ComponentLink3Description: Package Specification; ComponentLink3URL: http://cds.linear.com/docs/en/packaging/QFN_16_05-08-1691.pdf
footprint LT-UD-16_N (QFN, 16-Leads, Body 3x3mm, Pitch 0.5mm, Thermal Pad 1.45x1.45mm, IPC Medium Density)
footprint LT-UD-16_L (QFN, 16-Leads, Body 3x3mm, Pitch 0.5mm, Thermal Pad 1.45x1.45mm, IPC High Density)
footprint LT-UD-16_M (QFN, 16-Leads, Body 3x3mm, Pitch 0.5mm, Thermal Pad 1.45x1.45mm, IPC Low Density)
pins: 1 C1P "Charge Pump Flying Capacitor Pins. A 2.2 uF X7R or X5R ceramic capacitor should be connected from C1P to C1M and C2P to C2M.", 2 CPO (power) "Output of the charge pump used to power all LEDs. This pin is enabled or disabled using the EN1 and EN2 inputs. A 2.2 uF X5R or X7R ceramic capacitor should be connected to ground.", 3 EN1 (in) "Inputs. The EN1 and EN2 pins are used to select which current level is being supplied to the LEDs, as well as to put the part into shutdown mode.", 4 LED1 (out) "LED1 to LED4 are the current source outputs. Each LED is connected in between CPO (anodes) and LED1-4 (cathodes). The current to each LED output is set via the EN1 and EN2 inputs, and the programming resistors connected from (See Datasheet)", 5 LED2 (out) "LED1 to LED4 are the current source outputs. Each LED is connected in between CPO (anodes) and LED1-4 (cathodes). The current to each LED output is set via the EN1 and EN2 inputs, and the programming resistors connected from (See Datasheet)", 6 LED3 (out) "LED1 to LED4 are the current source outputs. Each LED is connected in between CPO (anodes) and LED1-4 (cathodes). The current to each LED output is set via the EN1 and EN2 inputs, and the programming resistors connected from (See Datasheet)", 7 LED4 (out) "LED1 to LED4 are the current source outputs. Each LED is connected in between CPO (anodes) and LED1-4 (cathodes). The current to each LED output is set via the EN1 and EN2 inputs, and the programming resistors connected from (See Datasheet)", 8 GND2 (power) "Analog Ground. This pin should be connected directly to a low impedance ground plane.", 9 ISET1 (in) "LED Current Programming Resistor Pins. The ISET1 and ISET2 pins will servo to 1.22 V. Resistors connected between each of these pins and GND are used to set the high and low LED current levels. Connecting a resistor 2 k or (See Datasheet)", 10 ISET2 (in) "LED Current Programming Resistor Pins. The ISET1 and ISET2 pins will servo to 1.22 V. Resistors connected between each of these pins and GND are used to set the high and low LED current levels. Connecting a resistor 2 k or (See Datasheet)", 11 EN2 (in) "Inputs. The EN1 and EN2 pins are used to select which current level is being supplied to the LEDs, as well as to put the part into shutdown mode.", 12 C2M "Charge Pump Flying Capacitor Pins. A 2.2 uF X7R or X5R ceramic capacitor should be connected from C1P to C1M and C2P to C2M.", 13 GND1 (power) "Charge Pump Ground. This pin should be connected directly to a low impedance ground plane", 14 C1M "Charge Pump Flying Capacitor Pins. A 2.2 uF X7R or X5R ceramic capacitor should be connected from C1P to C1M and C2P to C2M.", 15 VBAT (power) "Supply Voltage. This pin should be bypassed with a 2.2 uF, or greater low ESR ceramic capacitor.", 16 C2P "Charge Pump Flying Capacitor Pins. A 2.2 uF X7R or X5R ceramic capacitor should be connected from C1P to C1M and C2P to C2M.", 17 EP (power) "This pad should be connected directly to a low impedance ground plane for optimal thermal and electrical performance."

## LTC3217EUD#TRPBF
designator U?
600 mA Low Noise Multi-LED Camera Light Charge Pump, 2.9 to 4.5 V Vin, 16-pin QFN (UD-16), -40 to 85 degC, Pb-Free, Tape and Reel; Manufacturer: Linear Technology; PartNumber: LTC3217EUD#TRPBF; Topology: Charge Pump, LED Driver; Vin Min(V): 2.9; DatasheetVersion: Rev. A; PackageVersion: Jun-10; PackageReference: UD-16; PackageDescription: 16-Pin Plastic QFN, Body 3 x 3 mm, Pitch 0.5 mm; Supplier 1: Digi-Key; Supplier Part Number 1: LTC3217EUD#TRPBF-ND; Packing: Tape and Reel; RoHS: TRUE; Mounting Technology: Surface Mount; Code_JEDEC: MO-220; ComponentLink1Description: Manufacturer URL; ComponentLink1URL: http://www.linear.com/; ComponentLink2Description: Datasheet; ComponentLink2URL: http://cds.linear.com/docs/en/datasheet/3217fa.pdf; ComponentLink3Description: Package Specification; ComponentLink3URL: http://cds.linear.com/docs/en/packaging/QFN_16_05-08-1691.pdf
footprint LT-UD-16_N (QFN, 16-Leads, Body 3x3mm, Pitch 0.5mm, Thermal Pad 1.45x1.45mm, IPC Medium Density)
footprint LT-UD-16_L (QFN, 16-Leads, Body 3x3mm, Pitch 0.5mm, Thermal Pad 1.45x1.45mm, IPC High Density)
footprint LT-UD-16_M (QFN, 16-Leads, Body 3x3mm, Pitch 0.5mm, Thermal Pad 1.45x1.45mm, IPC Low Density)
pins: 1 C1P "Charge Pump Flying Capacitor Pins. A 2.2 uF X7R or X5R ceramic capacitor should be connected from C1P to C1M and C2P to C2M.", 2 CPO (power) "Output of the charge pump used to power all LEDs. This pin is enabled or disabled using the EN1 and EN2 inputs. A 2.2 uF X5R or X7R ceramic capacitor should be connected to ground.", 3 EN1 (in) "Inputs. The EN1 and EN2 pins are used to select which current level is being supplied to the LEDs, as well as to put the part into shutdown mode.", 4 LED1 (out) "LED1 to LED4 are the current source outputs. Each LED is connected in between CPO (anodes) and LED1-4 (cathodes). The current to each LED output is set via the EN1 and EN2 inputs, and the programming resistors connected from (See Datasheet)", 5 LED2 (out) "LED1 to LED4 are the current source outputs. Each LED is connected in between CPO (anodes) and LED1-4 (cathodes). The current to each LED output is set via the EN1 and EN2 inputs, and the programming resistors connected from (See Datasheet)", 6 LED3 (out) "LED1 to LED4 are the current source outputs. Each LED is connected in between CPO (anodes) and LED1-4 (cathodes). The current to each LED output is set via the EN1 and EN2 inputs, and the programming resistors connected from (See Datasheet)", 7 LED4 (out) "LED1 to LED4 are the current source outputs. Each LED is connected in between CPO (anodes) and LED1-4 (cathodes). The current to each LED output is set via the EN1 and EN2 inputs, and the programming resistors connected from (See Datasheet)", 8 GND2 (power) "Analog Ground. This pin should be connected directly to a low impedance ground plane.", 9 ISET1 (in) "LED Current Programming Resistor Pins. The ISET1 and ISET2 pins will servo to 1.22 V. Resistors connected between each of these pins and GND are used to set the high and low LED current levels. Connecting a resistor 2 k or (See Datasheet)", 10 ISET2 (in) "LED Current Programming Resistor Pins. The ISET1 and ISET2 pins will servo to 1.22 V. Resistors connected between each of these pins and GND are used to set the high and low LED current levels. Connecting a resistor 2 k or (See Datasheet)", 11 EN2 (in) "Inputs. The EN1 and EN2 pins are used to select which current level is being supplied to the LEDs, as well as to put the part into shutdown mode.", 12 C2M "Charge Pump Flying Capacitor Pins. A 2.2 uF X7R or X5R ceramic capacitor should be connected from C1P to C1M and C2P to C2M.", 13 GND1 (power) "Charge Pump Ground. This pin should be connected directly to a low impedance ground plane", 14 C1M "Charge Pump Flying Capacitor Pins. A 2.2 uF X7R or X5R ceramic capacitor should be connected from C1P to C1M and C2P to C2M.", 15 VBAT (power) "Supply Voltage. This pin should be bypassed with a 2.2 uF, or greater low ESR ceramic capacitor.", 16 C2P "Charge Pump Flying Capacitor Pins. A 2.2 uF X7R or X5R ceramic capacitor should be connected from C1P to C1M and C2P to C2M.", 17 EP (power) "This pad should be connected directly to a low impedance ground plane for optimal thermal and electrical performance."